# EAGLE library part 66200621022 (library Wire_to_Board_Connectors_rev15d)
WR-MPC3 3.00mm Male Dual Row Angled Header with Plastic Pegs, 6 Pins=>Code : Con_WTB-MPC3_2_PCB_THT66200621022 <http://katalog.we-online.de/media/thumbs2/eican/thb_Con_WTB-MPC3_2_PCB_THT86220xx21022_pf2.jpg> Details see: http://katalog.we-online.de/en/em/662_0xx_210_22 Created 2014-06-06, Karrer Zheng 2014 (C) Würth Elektronik
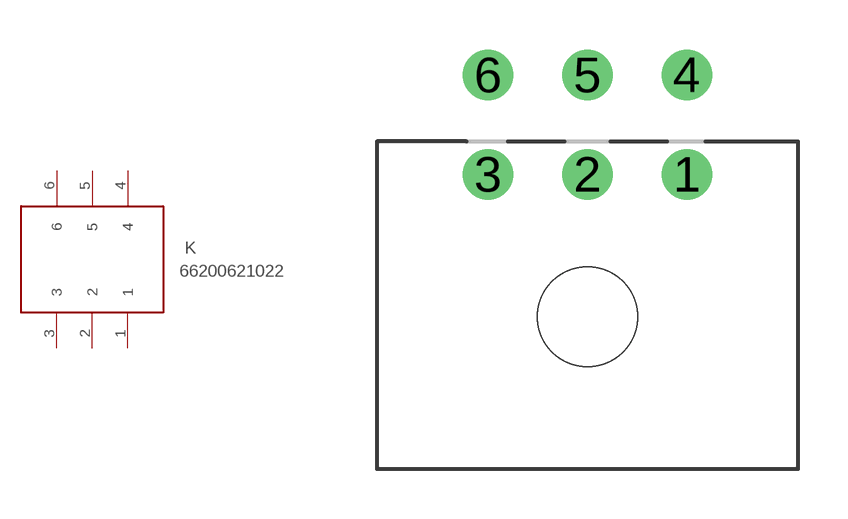
[diagram p327: symbol with the pads of 66200621022; footprint 66200621022]

Designator prefix K

## 66200621022  [66200621022]
1  1  pas
2  2  pas
3  3  pas
4  4  pas
5  5  pas
6  6  pas

## Footprint 66200621022 (pad centres in mm)
WR-MPC3 3.00mm Male Dual Row Angled Header with Plastic Pegs, 6 Pins
drill 1.02: 1 3,4.3; 2 0,4.3; 3 -3,4.3; 4 3,7.3; 5 0,7.3; 6 -3,7.3
hole 3 at 0,0